# EAGLE library part HEADER-6X1 (library Controller)
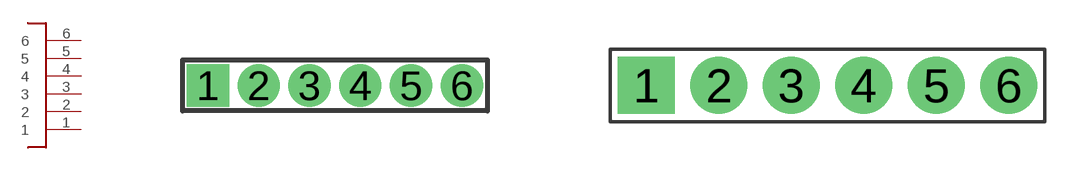
[diagram p7: symbol with the pads of HEADER-6X1-1.27; footprints HEADER-6X1-1.27, HEADER-6X1-2.54]

Designator prefix J

## HEADER-6X1-1.27  [HEADER-6X1-1.27]
1  1
2  2
3  3
4  4
5  5
6  6

## HEADER-6X1-2.54  [HEADER-6X1-2.54]
Pads as for HEADER-6X1-1.27

## Footprint HEADER-6X1-1.27 (pad centres in mm)
5 pin 0.1" header
drill 0.55 square: 1 -3.175,0
drill 0.55: 2 -1.905,0; 3 -0.635,0; 4 0.635,0; 5 1.905,0; 6 3.175,0

## Footprint HEADER-6X1-2.54 (pad centres in mm)
5 pin 0.1" header
drill 1.1 pad 2 square: 1 -6.35,0
drill 1.1 pad 2: 2 -3.81,0; 3 -1.27,0; 4 1.27,0; 5 3.81,0; 6 6.35,0